# Altium schematic symbol library BC847BS.SchLib: 1 symbol
Pins are listed as number, name and electrical type; pins without a type are passive.

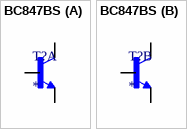
[diagram p0: symbol BC847BS]

## BC847BS
designator T?
NPN/NPN general-purpose transistor pair in a very small SOT363 (SC-88) Surface-Mounted Device (SMD) plastic package. <p><author>AAL Eindhoven MK</author><hr><p>  <img src="http://www.nxp.com/img/NXP_logo.png">; MP: BC847BS; MF: {'manufacturer': u'ON Semiconductor'}; Value: *; Availability: Unavailable; Package: None; Price: None
footprint SOT363
part A pins: 1 E, 2 B, 6 C
part B pins: 1 E, 2 B, 6 C